# Altium integrated library Crystals-Oscillators.IntLib: 5 symbols
Pins are listed as number, name and electrical type; pins without a type are passive.

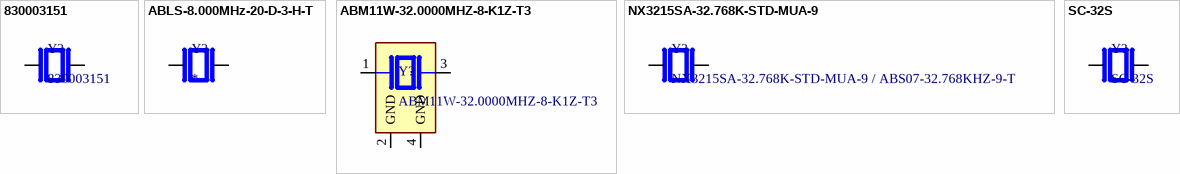
[diagram p0: symbols 830003151 to SC-32S]

## 830003151
designator Y?
Crystals WE-XTAL 8.0MHz 50ppm 13.4 x 4.9mm. Wurth Elektronik
footprint XTAL_ABLS-8.000MHz-20-D-3-H-T
pins: 1, 2

## ABLS-8.000MHz-20-D-3-H-T
designator Y?
HC/49US (AT49) SMD LOW PROFILE CRYSTAL; Manufacturer: Abracon LLC; Manufacturer Part Number: ABLS-8.000MHZ-20-D-3-H-T; Check_prices: https://www.snapeda.com/parts/ABLS-8.000MHZ-20-D-3-H-T/Abracon+LLC/view-part/?ref=eda; Price: None; Package: None; Availability: In Stock; Value: *; Purchase-URL: https://pricing.snapeda.com/search/part/ABLS-8.000MHZ-20-D-3-H-T/?ref=eda
footprint XTAL_ABLS-8.000MHz-20-D-3-H-T
pins: 1, 2

## ABM11W-32.0000MHZ-8-K1Z-T3
designator Y?
32 MHz ±10ppm Crystal 8pF 50 Ohms 4-SMD, No Lead; Manufacturer: Abracon LLC; Frequency: 32MHz; Manufacturer Part Number: ABM11W-32.0000MHZ-8-K1Z-T3; Package: 4-SMD
footprint XTAL_ABM11W-32.0000MHZ-8-K1Z-T3
pins: 1, 2 GND (power), 3 2, 4 GND (power)

## NX3215SA-32.768K-STD-MUA-9
designator Y?, comment NX3215SA-32.768K-STD-MUA-9 / ABS07-32.768KHZ-9-T
32.768 kHz ±20ppm Crystal 9pF 70 kOhms 2-SMD, No Lead. ::Alternative ABS07-32.768KHZ-9-T; Manufacturer: NDK America, Inc.; Manufacturer Part Number: NX3215SA-32.768K-STD-MUA-9; Frequency: 32.768KHz
footprint XTAL_ABS07-32.768KHZ-9-T
pins: 1, 2

## SC-32S
designator Y?
32.768 kHz ±20ppm Crystal 12.5pF 70 kOhms 2-SMD, No Lead; Manufacturer: Seiko; Manufacturer Part Number: SC-32S; Capacitance: 12.5pF; Frequency: 32.768kHz
footprint SC32S_3.2MMX1.5MM
pins: 1, 2